# Altium schematic symbol library MT7688_Lib.SchLib: 8 symbols
Pins are listed as number, name and electrical type; pins without a type are passive.

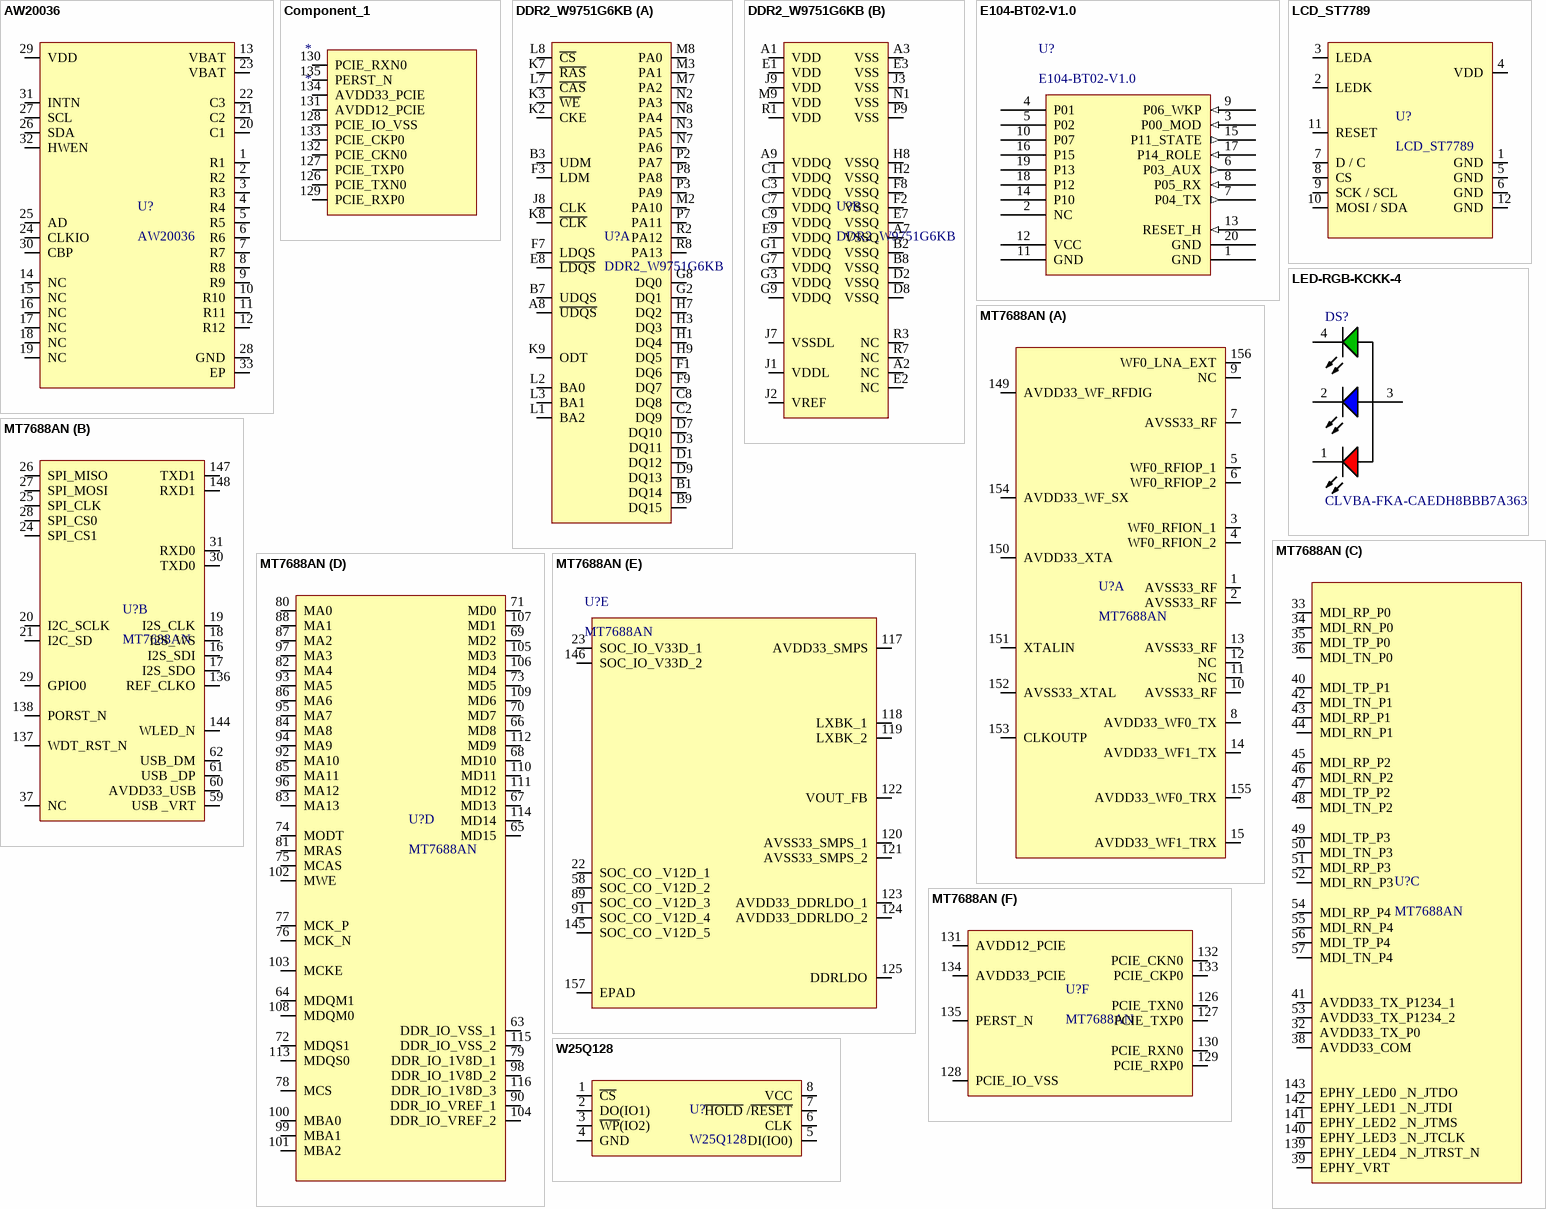
[diagram p0: symbols AW20036 to W25Q128]

## AW20036
designator U?
footprint QFN40P400X400X80_HS-33N (QFN, 32-Leads, Body 4.00x4.00mm, Pitch 0.40mm, Thermal Pad 3.20x3.20mm, IPC Medium Density)
pins: 1 R1, 2 R2, 3 R3, 4 R4, 5 R5, 6 R6, 7 R7, 8 R8, 9 R9, 10 R10, 11 R11, 12 R12, 13 VBAT, 14 NC, 15 NC, 16 NC, 17 NC, 18 NC, 19 NC, 20 C1, 21 C2, 22 C3, 23 VBAT, 24 CLKIO, 25 AD, 26 SDA, 27 SCL, 28 GND, 29 VDD, 30 CBP, 31 INTN, 32 HWEN, 33 EP

## Component_1
designator *
pins: 126 PCIE_TXN0, 127 PCIE_TXP0, 128 PCIE_IO_VSS, 129 PCIE_RXP0, 130 PCIE_RXN0, 131 AVDD12_PCIE, 132 PCIE_CKN0, 133 PCIE_CKP0, 134 AVDD33_PCIE, 135 PERST_N

## DDR2_W9751G6KB
designator U?
footprint MICT-RT-84 (BGA, 84-Balls, Body 12.5x9mm, Pitch 0.8mm)
part A pins: A8 ~{UDQS}, B1 DQ14, B3 UDM, B7 UDQS, B9 DQ15, C2 DQ9, C8 DQ8, D1 DQ12, D3 DQ11, D7 DQ10, D9 DQ13, E8 ~{LDQS}, F1 DQ6, F3 LDM, F7 LDQS, F9 DQ7, G2 DQ1, G8 DQ0, H1 DQ4, H3 DQ3, H7 DQ2, H9 DQ5, J8 CLK, K2 CKE, K3 ~{WE}, K7 ~{RAS}, K8 ~{CLK}, K9 ODT, L1 BA2, L2 BA0, L3 BA1, L7 ~{CAS}, L8 ~{CS}, M2 PA10, M3 PA1, M7 PA2, M8 PA0, N2 PA3, N3 PA5, N7 PA6, N8 PA4, P2 PA7, P3 PA9, P7 PA11, P8 PA8, R2 PA12, R8 PA13
part B pins: A1 VDD, A2 NC, A3 VSS, A7 VSSQ, A9 VDDQ, B2 VSSQ, B8 VSSQ, C1 VDDQ, C3 VDDQ, C7 VDDQ, C9 VDDQ, D2 VSSQ, D8 VSSQ, E1 VDD, E2 NC, E3 VSS, E7 VSSQ, E9 VDDQ, F2 VSSQ, F8 VSSQ, G1 VDDQ, G3 VDDQ, G7 VDDQ, G9 VDDQ, H2 VSSQ, H8 VSSQ, J1 VDDL, J2 VREF, J3 VSS, J7 VSSDL, J9 VDD, M9 VDD, N1 VSS, P9 VSS, R1 VDD, R3 NC, R7 NC

## E104-BT02-V1.0
designator U?
footprint PE104-BT02 (22mm*14.70mm*2.7mm-S)
pins: 1 GND (power), 2 NC, 3 P00_MOD (in), 4 P01, 5 P02, 6 P03_AUX (out), 7 P04_TX (out), 8 P05_RX (in), 9 P06_WKP (in), 10 P07, 11 GND (power), 12 VCC (power), 13 RESET_H (in), 14 P10, 15 P11_STATE (out), 16 P15, 17 P14_ROLE (in), 18 P12, 19 P13, 20 GND (power)

## LCD_ST7789
designator U?
footprint ST7789_1.3inch_IPS_TFT (12P)
pins: 1 GND, 2 LEDK, 3 LEDA, 4 VDD, 5 GND, 6 GND, 7 D / C, 8 CS, 9 SCK / SCL, 10 MOSI / SDA, 11 RESET, 12 GND

## LED-RGB-KCKK-4
designator DS?, comment CLVBA-FKA-CAEDH8BBB7A363
3-in-1 SMD Led, 1.9 V Red, 3 V Green, 3 V Blue, -40 to 100 degC, 4-Pin PLCC, RoHS, Reel; Luminous Intensity: 71mcd,140mcd,36mcd; Viewing Angle: 120deg; Brand: Cree,Inc.; Lens Color/Style: UVTinted; Forward Current: 20mA; LED Size: 3.2mmx2.8mmx1.9mm; Wavelength/Color Temperature: 630nm,527nm,470nm; Forward Voltage: 1.9V,3V,3V; Illumination Color: RGB; Package / Case: PLCC-4; Package Reference: PLCC-4; Packaging: Reel; Maximum Operating Temperature: +100C; Minimum Operating Temperature: -40C; Product Category: StandardLEDs-SMD; Manufacturer URL: http://www.cree.com/; RoHS: Details; Factory Pack Quantity: 2000; Datasheet URL: http://datasheet.octopart.com/CLVBA-FKA-CAEDH8BBB7A363-Cree-datasheet-44497822.pdf; Manufacturer: Cree,Inc.; Mounting Technology: SurfaceMount; Package Description: 4-Pin Plastic Leaded Chip Carrier, Body 3.2 x 2.8 mm; Datasheet Version: 12/2014
footprint CLVBA-FKA_RGB_A_V (SMD, 4-Leads, Body 3.2x2.8mm)
footprint RGB_LED
pins: 1 RED, 2 BLUE, 3 COMMON, 4 GREEN

## MT7688AN
designator U?
footprint MT7628AN$2F$DRQFN156$2F$SMD$2F$P0.5$2F$12X12
part A pins: 1 AVSS33_RF, 2 AVSS33_RF, 3 WF0_RFION_1, 4 WF0_RFION_2, 5 WF0_RFIOP_1, 6 WF0_RFIOP_2, 7 AVSS33_RF, 8 AVDD33_WF0_TX, 9 NC, 10 AVSS33_RF, 11 NC, 12 NC, 13 AVSS33_RF, 14 AVDD33_WF1_TX, 15 AVDD33_WF1_TRX, 149 AVDD33_WF_RFDIG, 150 AVDD33_XTA, 151 XTALIN, 152 AVSS33_XTAL, 153 CLKOUTP, 154 AVDD33_WF_SX, 155 AVDD33_WF0_TRX, 156 WF0_LNA_EXT
part B pins: 16 I2S_SDI, 17 I2S_SDO, 18 I2S_WS, 19 I2S_CLK, 20 I2C_SCLK, 21 I2C_SD, 24 SPI_CS1, 25 SPI_CLK, 26 SPI_MISO, 27 SPI_MOSI, 28 SPI_CS0, 29 GPIO0, 30 TXD0, 31 RXD0, 37 NC, 59 USB _VRT, 60 AVDD33_USB, 61 USB _DP, 62 USB_DM, 136 REF_CLKO, 137 WDT_RST_N, 138 PORST_N, 144 WLED_N, 147 TXD1, 148 RXD1
part C pins: 32 AVDD33_TX_P0, 33 MDI_RP_P0, 34 MDI_RN_P0, 35 MDI_TP_P0, 36 MDI_TN_P0, 38 AVDD33_COM, 39 EPHY_VRT, 40 MDI_TP_P1, 41 AVDD33_TX_P1234_1, 42 MDI_TN_P1, 43 MDI_RP_P1, 44 MDI_RN_P1, 45 MDI_RP_P2, 46 MDI_RN_P2, 47 MDI_TP_P2, 48 MDI_TN_P2, 49 MDI_TP_P3, 50 MDI_TN_P3, 51 MDI_RP_P3, 52 MDI_RN_P3, 53 AVDD33_TX_P1234_2, 54 MDI_RP_P4, 55 MDI_RN_P4, 56 MDI_TP_P4, 57 MDI_TN_P4, 139 EPHY_LED4 _N_JTRST_N, 140 EPHY_LED3 _N_JTCLK, 141 EPHY_LED2 _N_JTMS, 142 EPHY_LED1 _N_JTDI, 143 EPHY_LED0 _N_JTDO
part D pins: 63 DDR_IO_VSS_1, 64 MDQM1, 65 MD15, 66 MD8, 67 MD13, 68 MD10, 69 MD2, 70 MD7, 71 MD0, 72 MDQS1, 73 MD5, 74 MODT, 75 MCAS, 76 MCK_N, 77 MCK_P, 78 MCS, 79 DDR_IO_1V8D_1, 80 MA0, 81 MRAS, 82 MA4, 83 MA13, 84 MA8, 85 MA11, 86 MA6, 87 MA2, 88 MA1, 90 DDR_IO_VREF_1, 92 MA10, 93 MA5, 94 MA9, 95 MA7, 96 MA12, 97 MA3, 98 DDR_IO_1V8D_2, 99 MBA1, 100 MBA0, 101 MBA2, 102 MWE, 103 MCKE, 104 DDR_IO_VREF_2, 105 MD3, 106 MD4, 107 MD1, 108 MDQM0, 109 MD6, 110 MD11, 111 MD12, 112 MD9, 113 MDQS0, 114 MD14, 115 DDR_IO_VSS_2, 116 DDR_IO_1V8D_3
part E pins: 22 SOC_CO _V12D_1 (power), 23 SOC_IO_V33D_1 (power), 58 SOC_CO _V12D_2 (power), 89 SOC_CO _V12D_3 (power), 91 SOC_CO _V12D_4 (power), 117 AVDD33_SMPS (power), 118 LXBK_1 (power), 119 LXBK_2 (power), 120 AVSS33_SMPS_1 (power), 121 AVSS33_SMPS_2 (power), 122 VOUT_FB (power), 123 AVDD33_DDRLDO_1 (power), 124 AVDD33_DDRLDO_2 (power), 125 DDRLDO (power), 145 SOC_CO _V12D_5 (power), 146 SOC_IO_V33D_2 (power), 157 EPAD (power)
part F pins: 126 PCIE_TXN0, 127 PCIE_TXP0, 128 PCIE_IO_VSS, 129 PCIE_RXP0, 130 PCIE_RXN0, 131 AVDD12_PCIE, 132 PCIE_CKN0, 133 PCIE_CKP0, 134 AVDD33_PCIE, 135 PERST_N

## W25Q128
designator U?
footprint SOP8
pins: 1 ~{CS}, 2 DO(IO1), 3 ~{WP}(IO2), 4 GND, 5 DI(IO0), 6 CLK, 7 ~{HOLD} /~{RESET}, 8 VCC